# EAGLE library part 050_610_?-22/44 (library con-sullinselectronics)
.050 DIP EDGE CARD CONNECTOR .050 [1.27mm] CONTACT CENTERS .610" INSULATEOR HEIGHT Source: .050 DIP EDGE CARD.pdf
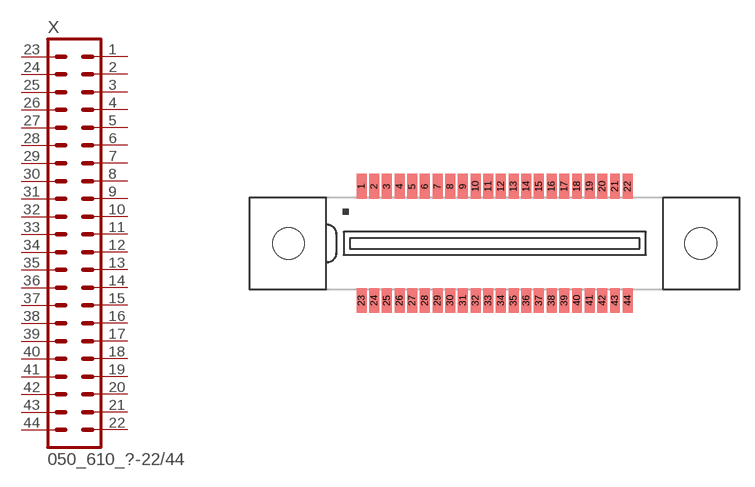
[diagram p7: symbol with the pads of 050_610_HF-22/44; footprint 050_610_HF-22/44]

Designator prefix X

## 050_610_HF-22/44 (OC_FARNELL: unknown; OC_NEWARK: unknown)  [050_610_HF-22/44]
1  1  pas
2  2  pas
3  3  pas
4  4  pas
5  5  pas
6  6  pas
7  7  pas
8  8  pas
9  9  pas
10  10  pas
11  11  pas
12  12  pas
13  13  pas
14  14  pas
15  15  pas
16  16  pas
17  17  pas
18  18  pas
19  19  pas
20  20  pas
21  21  pas
22  22  pas
23  23  pas
24  24  pas
25  25  pas
26  26  pas
27  27  pas
28  28  pas
29  29  pas
30  30  pas
31  31  pas
32  32  pas
33  33  pas
34  34  pas
35  35  pas
36  36  pas
37  37  pas
38  38  pas
39  39  pas
40  40  pas
41  41  pas
42  42  pas
43  43  pas
44  44  pas

## Footprint 050_610_HF-22/44 (pad centres in mm)
.050 DIP EDGE CARD CONNECTOR SURFACE MOUNT .050 [1.27mm] CONTACT CENTERS .610" INSULATEOR HEIGHT Source: .050 DIP EDGE CARD.pdf
smd 1 x 2.5: 1 -13.335,5.715; 2 -12.065,5.715; 3 -10.795,5.715; 4 -9.525,5.715; 5 -8.255,5.715; 6 -6.985,5.715; 7 -5.715,5.715; 8 -4.445,5.715; 9 -3.175,5.715; 10 -1.905,5.715; 11 -0.635,5.715; 12 0.635,5.715; 13 1.905,5.715; 14 3.175,5.715; 15 4.445,5.715; 16 5.715,5.715; 17 6.985,5.715; 18 8.255,5.715; 19 9.525,5.715; 20 10.795,5.715; 21 12.065,5.715; 22 13.335,5.715; 23 -13.335,-5.715; 24 -12.065,-5.715; 25 -10.795,-5.715; 26 -9.525,-5.715; 27 -8.255,-5.715; 28 -6.985,-5.715; 29 -5.715,-5.715; 30 -4.445,-5.715; 31 -3.175,-5.715; 32 -1.905,-5.715; 33 -0.635,-5.715; 34 0.635,-5.715; 35 1.905,-5.715; 36 3.175,-5.715; 37 4.445,-5.715; 38 5.715,-5.715; 39 6.985,-5.715; 40 8.255,-5.715; 41 9.525,-5.715; 42 10.795,-5.715; 43 12.065,-5.715; 44 13.335,-5.715
hole 3.18 at -20.65,0
hole 3.18 at 20.65,0